# EAGLE library part CPL-CON-HEADER-0.1IN-2X3P-M (library TinWhiskers)
Connector: 0.1" Pitch, 2x3P Datasheet: http://www.mouser.com/ds/2/418/NG_CD_825440_G_baseFilename-672958.pdf
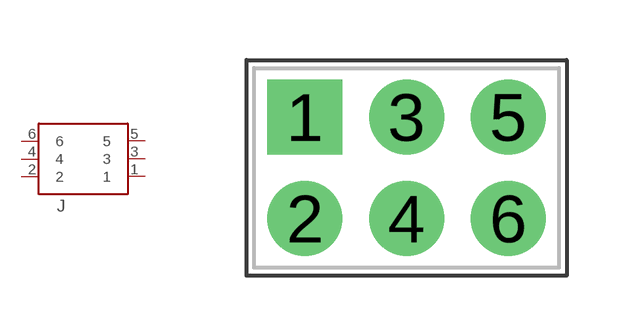
[diagram p5: symbol with the pads of CON-HDR-2X3P; footprint CON-HDR-2X3P]

Designator prefix J

## CPL-CON-HEADER-0.1IN-2X3P-M  [CON-HDR-2X3P]
1  1  pas
2  2  pas
3  3  pas
4  4  pas
5  5  pas
6  6  pas

## Footprint CON-HDR-2X3P (pad centres in mm)
Connector: Header, 2x3P, Male; Datasheet: http://www.mouser.com/ds/2/418/NG_CD_825440_G_baseFilename-672958.pdf
drill 1.25 square: 1 -2.54,1.27
drill 1.25: 2 -2.54,-1.27; 3 0,1.27; 4 0,-1.27; 5 2.54,1.27; 6 2.54,-1.27